# Altium schematic symbol library SCH - MCU - STM32 - ST MICROELECTRONICS STM32F733ZEIX UFBGA144.SchLib: 1 symbol
Pins are listed as number, name and electrical type; pins without a type are passive.

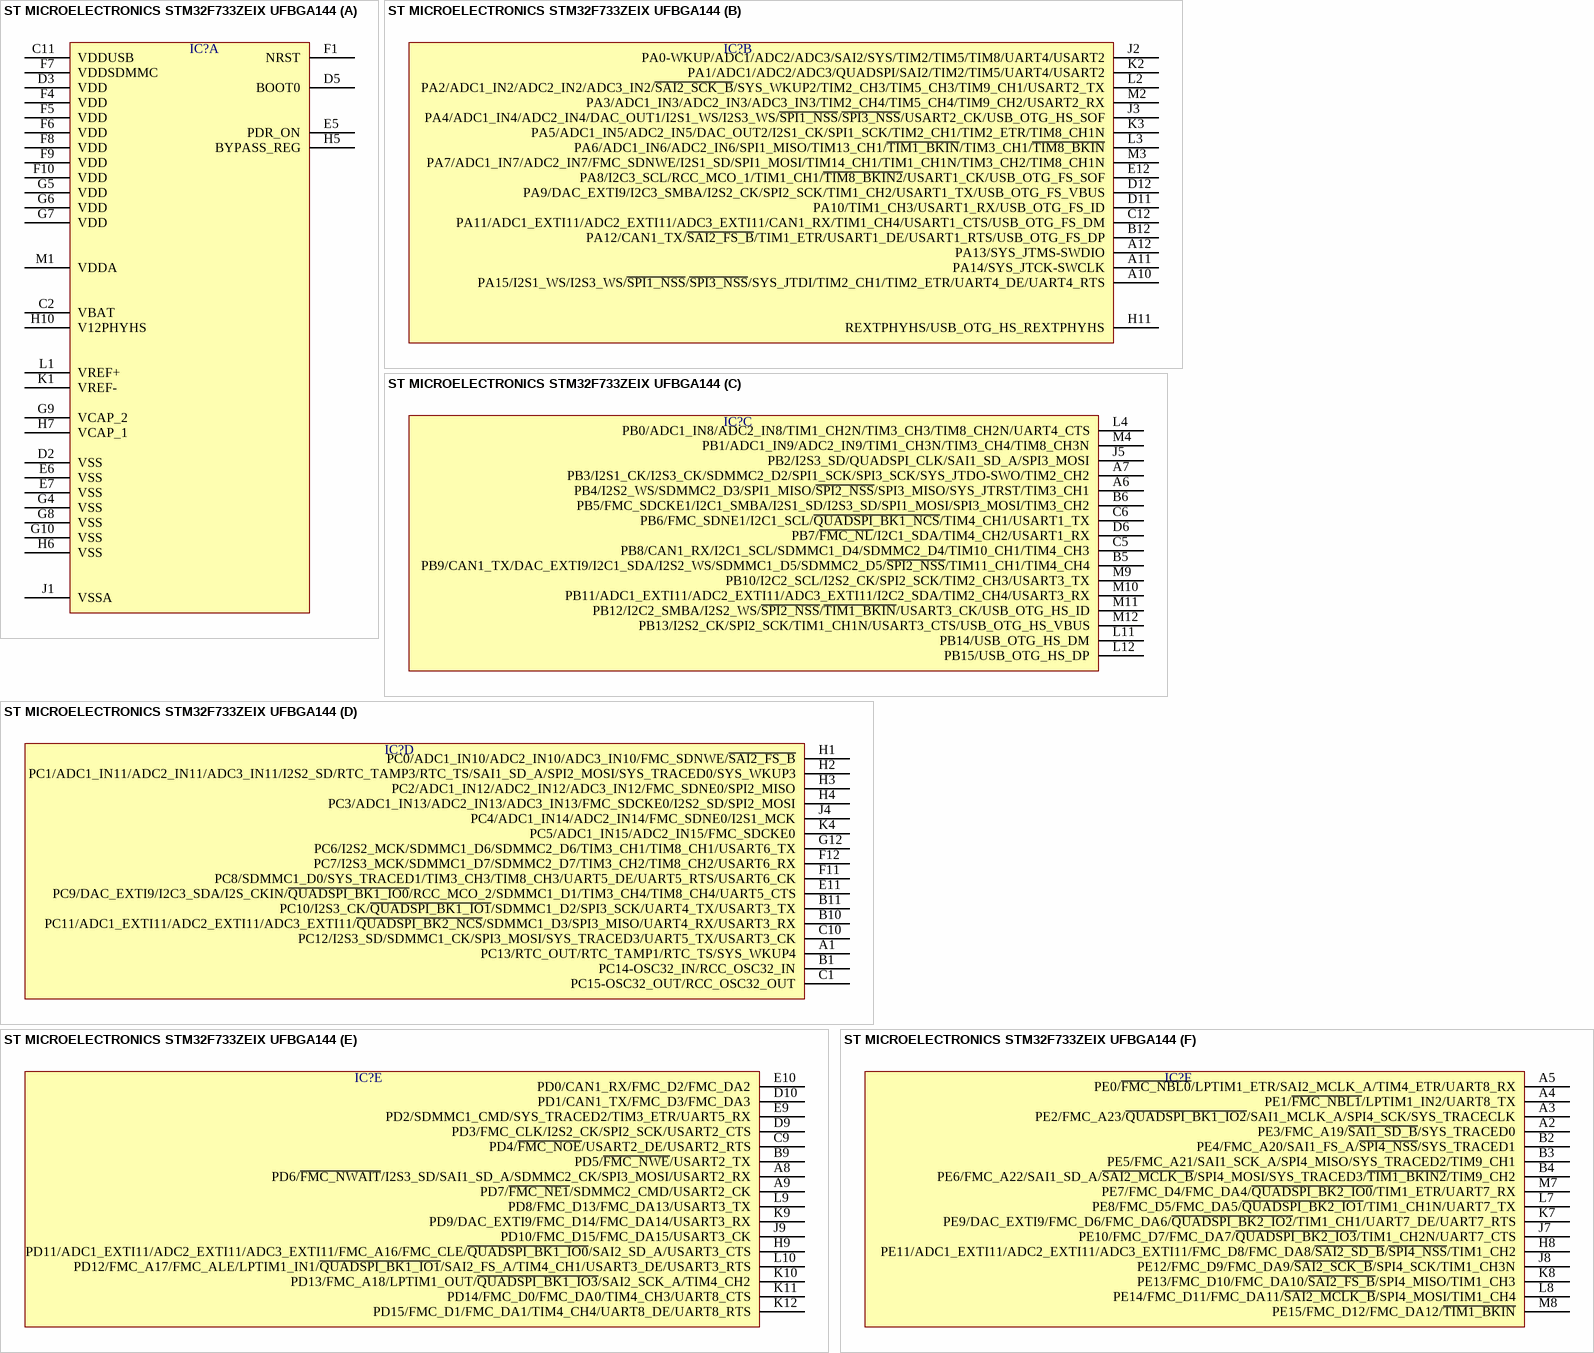
[diagram p0: symbol ST MICROELECTRONICS STM32F733ZEIX UFBGA144]

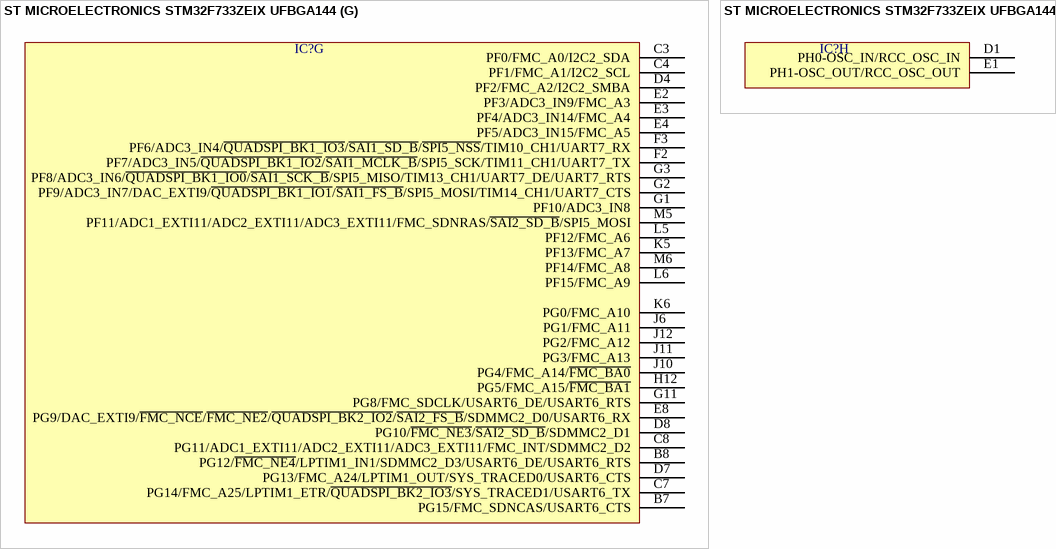
[diagram p1: symbol ST MICROELECTRONICS STM32F733ZEIX UFBGA144]

## ST MICROELECTRONICS STM32F733ZEIX UFBGA144
designator IC?  (value not drawn)
part A pins: C2 VBAT, C11 VDDUSB, D2 VSS, D3 VDD, D5 BOOT0, E5 PDR_ON, E6 VSS, E7 VSS, F1 NRST, F4 VDD, F5 VDD, F6 VDD, F7 VDDSDMMC, F8 VDD, F9 VDD, F10 VDD, G4 VSS, G5 VDD, G6 VDD, G7 VDD, G8 VSS, G9 VCAP_2, G10 VSS, H5 BYPASS_REG, H6 VSS, H7 VCAP_1, H10 V12PHYHS, J1 VSSA, K1 VREF-, L1 VREF+, M1 VDDA
part B pins: A10 PA15/I2S1_WS/I2S3_WS/~{SPI1_NSS}/~{SPI3_NSS}/SYS_JTDI/TIM2_CH1/TIM2_ETR/UART4_DE/UART4_RTS, A11 PA14/SYS_JTCK-SWCLK, A12 PA13/SYS_JTMS-SWDIO, B12 PA12/CAN1_TX/~{SAI2_FS_B}/TIM1_ETR/USART1_DE/USART1_RTS/USB_OTG_FS_DP, C12 PA11/ADC1_EXTI11/ADC2_EXTI11/ADC3_EXTI11/CAN1_RX/TIM1_CH4/USART1_CTS/USB_OTG_FS_DM, D11 PA10/TIM1_CH3/USART1_RX/USB_OTG_FS_ID, D12 PA9/DAC_EXTI9/I2C3_SMBA/I2S2_CK/SPI2_SCK/TIM1_CH2/USART1_TX/USB_OTG_FS_VBUS, E12 PA8/I2C3_SCL/RCC_MCO_1/TIM1_CH1/~{TIM8_BKIN2}/USART1_CK/USB_OTG_FS_SOF, H11 REXTPHYHS/USB_OTG_HS_REXTPHYHS, J2 PA0-WKUP/ADC1/ADC2/ADC3/SAI2/SYS/TIM2/TIM5/TIM8/UART4/USART2, J3 PA4/ADC1_IN4/ADC2_IN4/DAC_OUT1/I2S1_WS/I2S3_WS/~{SPI1_NSS}/~{SPI3_NSS}/USART2_CK/USB_OTG_HS_SOF, K2 PA1/ADC1/ADC2/ADC3/QUADSPI/SAI2/TIM2/TIM5/UART4/USART2, K3 PA5/ADC1_IN5/ADC2_IN5/DAC_OUT2/I2S1_CK/SPI1_SCK/TIM2_CH1/TIM2_ETR/TIM8_CH1N, L2 PA2/ADC1_IN2/ADC2_IN2/ADC3_IN2/~{SAI2_SCK_B}/SYS_WKUP2/TIM2_CH3/TIM5_CH3/TIM9_CH1/USART2_TX, L3 PA6/ADC1_IN6/ADC2_IN6/SPI1_MISO/TIM13_CH1/~{TIM1_BKIN}/TIM3_CH1/~{TIM8_BKIN}, M2 PA3/ADC1_IN3/ADC2_IN3/ADC3_IN3/TIM2_CH4/TIM5_CH4/TIM9_CH2/USART2_RX, M3 PA7/ADC1_IN7/ADC2_IN7/FMC_SDNWE/I2S1_SD/SPI1_MOSI/TIM14_CH1/TIM1_CH1N/TIM3_CH2/TIM8_CH1N
part C pins: A6 PB4/I2S2_WS/SDMMC2_D3/SPI1_MISO/~{SPI2_NSS}/SPI3_MISO/SYS_JTRST/TIM3_CH1, A7 PB3/I2S1_CK/I2S3_CK/SDMMC2_D2/SPI1_SCK/SPI3_SCK/SYS_JTDO-SWO/TIM2_CH2, B5 PB9/CAN1_TX/DAC_EXTI9/I2C1_SDA/I2S2_WS/SDMMC1_D5/SDMMC2_D5/~{SPI2_NSS}/TIM11_CH1/TIM4_CH4, B6 PB5/FMC_SDCKE1/I2C1_SMBA/I2S1_SD/I2S3_SD/SPI1_MOSI/SPI3_MOSI/TIM3_CH2, C5 PB8/CAN1_RX/I2C1_SCL/SDMMC1_D4/SDMMC2_D4/TIM10_CH1/TIM4_CH3, C6 PB6/FMC_SDNE1/I2C1_SCL/~{QUADSPI_BK1_NCS}/TIM4_CH1/USART1_TX, D6 PB7/~{FMC_NL}/I2C1_SDA/TIM4_CH2/USART1_RX, J5 PB2/I2S3_SD/QUADSPI_CLK/SAI1_SD_A/SPI3_MOSI, L4 PB0/ADC1_IN8/ADC2_IN8/TIM1_CH2N/TIM3_CH3/TIM8_CH2N/UART4_CTS, L11 PB14/USB_OTG_HS_DM, L12 PB15/USB_OTG_HS_DP, M4 PB1/ADC1_IN9/ADC2_IN9/TIM1_CH3N/TIM3_CH4/TIM8_CH3N, M9 PB10/I2C2_SCL/I2S2_CK/SPI2_SCK/TIM2_CH3/USART3_TX, M10 PB11/ADC1_EXTI11/ADC2_EXTI11/ADC3_EXTI11/I2C2_SDA/TIM2_CH4/USART3_RX, M11 PB12/I2C2_SMBA/I2S2_WS/~{SPI2_NSS}/~{TIM1_BKIN}/USART3_CK/USB_OTG_HS_ID, M12 PB13/I2S2_CK/SPI2_SCK/TIM1_CH1N/USART3_CTS/USB_OTG_HS_VBUS
part D pins: A1 PC13/RTC_OUT/RTC_TAMP1/RTC_TS/SYS_WKUP4, B1 PC14-OSC32_IN/RCC_OSC32_IN, B10 PC11/ADC1_EXTI11/ADC2_EXTI11/ADC3_EXTI11/~{QUADSPI_BK2_NCS}/SDMMC1_D3/SPI3_MISO/UART4_RX/USART3_RX, B11 PC10/I2S3_CK/~{QUADSPI_BK1_IO1}/SDMMC1_D2/SPI3_SCK/UART4_TX/USART3_TX, C1 PC15-OSC32_OUT/RCC_OSC32_OUT, C10 PC12/I2S3_SD/SDMMC1_CK/SPI3_MOSI/SYS_TRACED3/UART5_TX/USART3_CK, E11 PC9/DAC_EXTI9/I2C3_SDA/I2S_CKIN/~{QUADSPI_BK1_IO0}/RCC_MCO_2/SDMMC1_D1/TIM3_CH4/TIM8_CH4/UART5_CTS, F11 PC8/SDMMC1_D0/SYS_TRACED1/TIM3_CH3/TIM8_CH3/UART5_DE/UART5_RTS/USART6_CK, F12 PC7/I2S3_MCK/SDMMC1_D7/SDMMC2_D7/TIM3_CH2/TIM8_CH2/USART6_RX, G12 PC6/I2S2_MCK/SDMMC1_D6/SDMMC2_D6/TIM3_CH1/TIM8_CH1/USART6_TX, H1 PC0/ADC1_IN10/ADC2_IN10/ADC3_IN10/FMC_SDNWE/~{SAI2_FS_B}, H2 PC1/ADC1_IN11/ADC2_IN11/ADC3_IN11/I2S2_SD/RTC_TAMP3/RTC_TS/SAI1_SD_A/SPI2_MOSI/SYS_TRACED0/SYS_WKUP3, H3 PC2/ADC1_IN12/ADC2_IN12/ADC3_IN12/FMC_SDNE0/SPI2_MISO, H4 PC3/ADC1_IN13/ADC2_IN13/ADC3_IN13/FMC_SDCKE0/I2S2_SD/SPI2_MOSI, J4 PC4/ADC1_IN14/ADC2_IN14/FMC_SDNE0/I2S1_MCK, K4 PC5/ADC1_IN15/ADC2_IN15/FMC_SDCKE0
part E pins: A8 PD6/~{FMC_NWAIT}/I2S3_SD/SAI1_SD_A/SDMMC2_CK/SPI3_MOSI/USART2_RX, A9 PD7/~{FMC_NE1}/SDMMC2_CMD/USART2_CK, B9 PD5/~{FMC_NWE}/USART2_TX, C9 PD4/~{FMC_NOE}/USART2_DE/USART2_RTS, D9 PD3/FMC_CLK/I2S2_CK/SPI2_SCK/USART2_CTS, D10 PD1/CAN1_TX/FMC_D3/FMC_DA3, E9 PD2/SDMMC1_CMD/SYS_TRACED2/TIM3_ETR/UART5_RX, E10 PD0/CAN1_RX/FMC_D2/FMC_DA2, H9 PD11/ADC1_EXTI11/ADC2_EXTI11/ADC3_EXTI11/FMC_A16/FMC_CLE/~{QUADSPI_BK1_IO0}/SAI2_SD_A/USART3_CTS, J9 PD10/FMC_D15/FMC_DA15/USART3_CK, K9 PD9/DAC_EXTI9/FMC_D14/FMC_DA14/USART3_RX, K10 PD13/FMC_A18/LPTIM1_OUT/~{QUADSPI_BK1_IO3}/SAI2_SCK_A/TIM4_CH2, K11 PD14/FMC_D0/FMC_DA0/TIM4_CH3/UART8_CTS, K12 PD15/FMC_D1/FMC_DA1/TIM4_CH4/UART8_DE/UART8_RTS, L9 PD8/FMC_D13/FMC_DA13/USART3_TX, L10 PD12/FMC_A17/FMC_ALE/LPTIM1_IN1/~{QUADSPI_BK1_IO1}/SAI2_FS_A/TIM4_CH1/USART3_DE/USART3_RTS
part F pins: A2 PE3/FMC_A19/~{SAI1_SD_B}/SYS_TRACED0, A3 PE2/FMC_A23/~{QUADSPI_BK1_IO2}/SAI1_MCLK_A/SPI4_SCK/SYS_TRACECLK, A4 PE1/~{FMC_NBL1}/LPTIM1_IN2/UART8_TX, A5 PE0/~{FMC_NBL0}/LPTIM1_ETR/SAI2_MCLK_A/TIM4_ETR/UART8_RX, B2 PE4/FMC_A20/SAI1_FS_A/~{SPI4_NSS}/SYS_TRACED1, B3 PE5/FMC_A21/SAI1_SCK_A/SPI4_MISO/SYS_TRACED2/TIM9_CH1, B4 PE6/FMC_A22/SAI1_SD_A/~{SAI2_MCLK_B}/SPI4_MOSI/SYS_TRACED3/~{TIM1_BKIN2}/TIM9_CH2, H8 PE11/ADC1_EXTI11/ADC2_EXTI11/ADC3_EXTI11/FMC_D8/FMC_DA8/~{SAI2_SD_B}/~{SPI4_NSS}/TIM1_CH2, J7 PE10/FMC_D7/FMC_DA7/~{QUADSPI_BK2_IO3}/TIM1_CH2N/UART7_CTS, J8 PE12/FMC_D9/FMC_DA9/~{SAI2_SCK_B}/SPI4_SCK/TIM1_CH3N, K7 PE9/DAC_EXTI9/FMC_D6/FMC_DA6/~{QUADSPI_BK2_IO2}/TIM1_CH1/UART7_DE/UART7_RTS, K8 PE13/FMC_D10/FMC_DA10/~{SAI2_FS_B}/SPI4_MISO/TIM1_CH3, L7 PE8/FMC_D5/FMC_DA5/~{QUADSPI_BK2_IO1}/TIM1_CH1N/UART7_TX, L8 PE14/FMC_D11/FMC_DA11/~{SAI2_MCLK_B}/SPI4_MOSI/TIM1_CH4, M7 PE7/FMC_D4/FMC_DA4/~{QUADSPI_BK2_IO0}/TIM1_ETR/UART7_RX, M8 PE15/FMC_D12/FMC_DA12/~{TIM1_BKIN}
part G pins: B7 PG15/FMC_SDNCAS/USART6_CTS, B8 PG12/~{FMC_NE4}/LPTIM1_IN1/SDMMC2_D3/USART6_DE/USART6_RTS, C3 PF0/FMC_A0/I2C2_SDA, C4 PF1/FMC_A1/I2C2_SCL, C7 PG14/FMC_A25/LPTIM1_ETR/~{QUADSPI_BK2_IO3}/SYS_TRACED1/USART6_TX, C8 PG11/ADC1_EXTI11/ADC2_EXTI11/ADC3_EXTI11/FMC_INT/SDMMC2_D2, D4 PF2/FMC_A2/I2C2_SMBA, D7 PG13/FMC_A24/LPTIM1_OUT/SYS_TRACED0/USART6_CTS, D8 PG10/~{FMC_NE3}/~{SAI2_SD_B}/SDMMC2_D1, E2 PF3/ADC3_IN9/FMC_A3, E3 PF4/ADC3_IN14/FMC_A4, E4 PF5/ADC3_IN15/FMC_A5, E8 PG9/DAC_EXTI9/~{FMC_NCE}/~{FMC_NE2}/~{QUADSPI_BK2_IO2}/~{SAI2_FS_B}/SDMMC2_D0/USART6_RX, F2 PF7/ADC3_IN5/~{QUADSPI_BK1_IO2}/~{SAI1_MCLK_B}/SPI5_SCK/TIM11_CH1/UART7_TX, F3 PF6/ADC3_IN4/~{QUADSPI_BK1_IO3}/~{SAI1_SD_B}/~{SPI5_NSS}/TIM10_CH1/UART7_RX, G1 PF10/ADC3_IN8, G2 PF9/ADC3_IN7/DAC_EXTI9/~{QUADSPI_BK1_IO1}/~{SAI1_FS_B}/SPI5_MOSI/TIM14_CH1/UART7_CTS, G3 PF8/ADC3_IN6/~{QUADSPI_BK1_IO0}/~{SAI1_SCK_B}/SPI5_MISO/TIM13_CH1/UART7_DE/UART7_RTS, G11 PG8/FMC_SDCLK/USART6_DE/USART6_RTS, H12 PG5/FMC_A15/~{FMC_BA1}, J6 PG1/FMC_A11, J10 PG4/FMC_A14/~{FMC_BA0}, J11 PG3/FMC_A13, J12 PG2/FMC_A12, K5 PF13/FMC_A7, K6 PG0/FMC_A10, L5 PF12/FMC_A6, L6 PF15/FMC_A9, M5 PF11/ADC1_EXTI11/ADC2_EXTI11/ADC3_EXTI11/FMC_SDNRAS/~{SAI2_SD_B}/SPI5_MOSI, M6 PF14/FMC_A8
part H pins: D1 PH0-OSC_IN/RCC_OSC_IN, E1 PH1-OSC_OUT/RCC_OSC_OUT